# Altium footprint library Supply.PcbLib: 11 footprints
Each footprint in its own frame and in the unit in brackets; x right, y up, seen from the top. Pads: shape width x height; smd on the part's side, far side on the other; paste and mask are expansions set on the pad; w line width, h text height; cw(c..) or ccw(c..) is an arc to the next point about the centre after c.
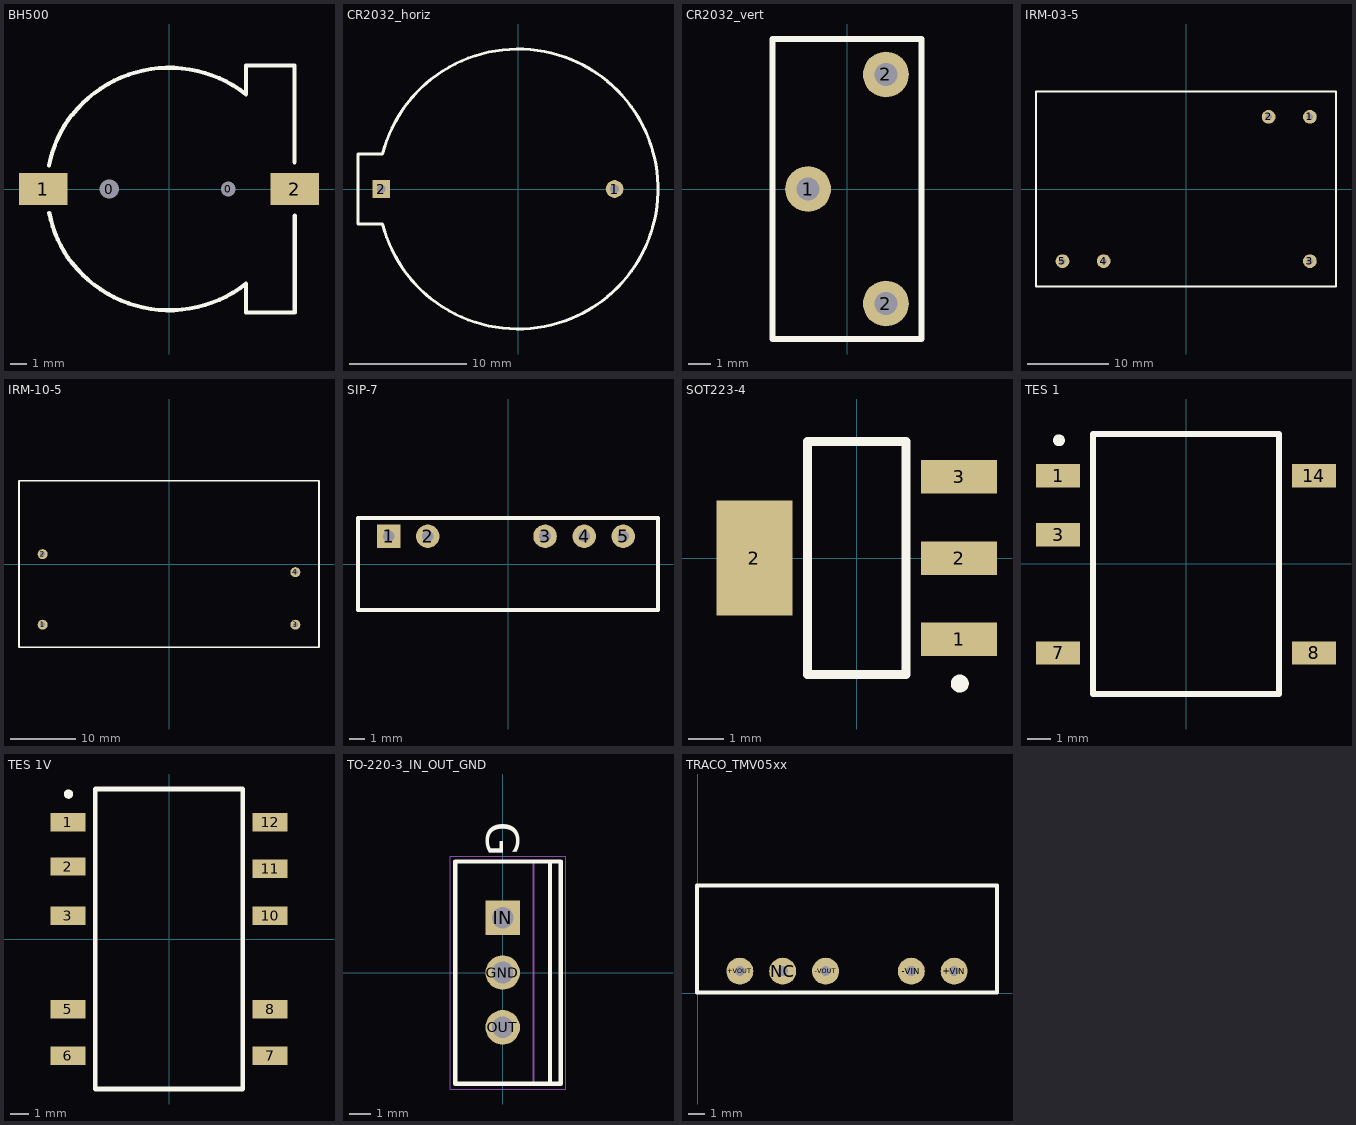
[diagram p0: the footprints below, top view; thin cyan lines are the x and y axes]

## BH500 [mm]
pads (4):
  round 1.1 hole 1.2: 0(-3.683,0)
  round 0.85 hole 0.9: 0(3.65,0)
  rect 3x2 smd: 1(-7.75,0) 2(7.75,0)
Top Overlay:
  lines w0.254: -7.398,1.453 cw(c0,0) -5.993,4.574 ; -7.385,-1.477 ccw(c0,0) -5.979,-4.58 ; -5.969,-4.572 ccw(c0.025,0.152) 4.75,-5.842 4.75,-7.62 7.753,-7.62 7.753,-1.651 ; -5.969,4.572 cw(c0.026,-0.152) 4.75,5.842 4.75,7.62 7.75,7.62 7.75,1.651

## CR2032_horiz [mil]
pads (2):
  round 60 hole 30: 1(325.98,0)
  rect 60x60 hole 30: 2(-461.42,0)
Top Overlay:
  lines w10: -540,-118.11 -540,118.11 -457.32,118.11 cw(c0,0) -457.32,-118.11 -540,-118.11

## CR2032_vert [mm]
pads (3):
  round 2 hole 1: 1(-1.7,0) 2(1.7,-5) 2(1.7,5)
Top Overlay:
  lines w0.254: -3.25,-6.55 3.25,-6.55 3.25,6.55 -3.25,6.55 -3.25,-6.55

## IRM-03-5 [mm]
pads (5):
  round 1.7 hole 0.8: 1(15.24,8.89) 2(10.16,8.89) 3(15.24,-8.89) 4(-10.16,-8.89) 5(-15.24,-8.89)
Top Overlay:
  lines w0.254: -18.5,-12 -18.5,12 18.458,12 18.458,-12 -18.5,-12

## IRM-10-5 [mil]
pads (4):
  round 60 hole 30: 1(-757.87,-364.17) 2(-757.87,59.06) 3(757.87,-364.17) 4(757.87,-49.21)
Top Overlay:
  lines w10: -899.61,-500 899.61,-500 899.61,500 -899.61,500 -899.61,-500

## SIP-7 [mil]
pads (5):
  rect 60x60 hole 30: 1(-305.12,70.87)
  round 60 hole 30: 2(-205.12,70.87) 3(94.88,70.87) 4(194.88,70.87) 5(294.88,70.87)
Top Overlay:
  lines w10: -383.86,-118.11 383.86,-118.11 383.86,118.11 -383.86,118.11 -383.86,-118.11

## SOT223-4 [mm]
pads (4):
  rect 2.15x0.95 smd: 1(2.9,-2.3) 2(2.9,0) 3(2.9,2.3)
  rect 2.15x3.25 smd: 2(-2.9,0)
Top Overlay:
  circle w0.254: c2.921,-3.556 r0.127
  lines w0.254: -1.4,-3.3 1.4,-3.3 1.4,3.3 -1.4,3.3 -1.4,-3.3 ; 2.921,-3.556 ccw(c2.857,-3.619) 2.921,-3.556

## TES 1 [mm]
pads (5):
  rect 1.9x1 smd: 1(-5.5,3.788) 3(-5.5,1.248) 7(-5.5,-3.832) 8(5.5,-3.832) 14(5.5,3.788)
Top Overlay:
  circle w0.254: c-5.461,5.312 r0.127
  lines w0.254: -4,-5.6 -4,5.588 4,5.588 4,-5.6 -4,-5.6

## TES 1V [mm]
pads (10):
  rect 1.9x1 smd: 1(-5.5,6.35) 2(-5.5,3.937) 3(-5.5,1.27) 5(-5.5,-3.81) 6(-5.5,-6.35) 7(5.5,-6.35) 8(5.5,-3.81) 10(5.5,1.27) 11(5.5,3.81) 12(5.5,6.35)
Top Overlay:
  circle w0.254: c-5.461,7.874 r0.127
  lines w0.254: -4,-8.15 -4,8.15 4,8.15 4,-8.15 -4,-8.15

## TO-220-3_IN_OUT_GND [mm] "FM, 3-Leads, Body 10.3x4.85mm, Pitch 2.54mm"
height 19.68
pads (3):
  round 1.6 hole 1: GND(0,0) OUT(0,-2.54)
  rect 1.6x1.6 hole 1: IN(0,2.54)
Top Overlay:
  lines w0.2: 2.195,-5.15 2.195,5.15 ; -2.205,-5.15 2.695,-5.15 2.695,5.15 -2.205,5.15 -2.205,-5.15
  text "G" at -0.762,6.985 h1.52
Mechanical 13:
  lines w0.1: 1.42,-5.15 1.42,5.15 ; -2.18,-5.15 -2.18,5.15 2.67,5.15 2.67,-5.15 -2.18,-5.15
Mechanical 15:
  lines w0.05: -2.43,-5.4 -2.43,5.4 2.92,5.4 2.92,-5.4 -2.43,-5.4
  lines w0.1: -0.5,0 0.5,0 ; 0,-0.5 0,0.5
3D body: height 2.8, standoff 0, extent -0.25,1.87 0.25,3.21
3D body: height 0, standoff -1.6, extent -0.25,2.16 0.25,2.92
3D body: height 2.8, standoff 0, extent -0.25,-0.67 0.25,0.67
3D body: height 0, standoff -1.6, extent -0.25,-0.38 0.25,0.38
3D body: height 2.8, standoff 0, extent -0.25,-3.21 0.25,-1.87
3D body: height 0, standoff -1.6, extent -0.25,-2.92 0.25,-2.16
3D body: height 13.48, standoff 2.8, extent -2.18,-5.15 2.67,5.15
3D body: height 14.96, standoff 13.48, extent 1.42,-4.975 2.67,4.975
3D body: height 15, standoff 14.96, extent 1.42,0.376 2.67,4.975
3D body: height 15, standoff 14.96, extent 1.42,-4.975 2.67,-0.376
3D body: height 18.81, standoff 18.77, extent 1.42,0.376 2.67,4.975
3D body: height 18.81, standoff 18.77, extent 1.42,-4.975 2.67,-0.376
3D body: height 15.11, standoff 14.99, extent 1.42,0.737 2.67,4.975
3D body: height 15.11, standoff 14.99, extent 1.42,-4.975 2.67,-0.737
3D body: height 18.77, standoff 18.66, extent 1.42,0.737 2.67,4.975
3D body: height 18.77, standoff 18.66, extent 1.42,-4.975 2.67,-0.737
3D body: height 15.28, standoff 15.1, extent 1.42,1.069 2.67,4.975
3D body: height 15.28, standoff 15.1, extent 1.42,-4.975 2.67,-1.069
3D body: height 18.66, standoff 18.48, extent 1.42,1.069 2.67,4.975
3D body: height 18.66, standoff 18.48, extent 1.42,-4.975 2.67,-1.069
3D body: height 15.52, standoff 15.28, extent 1.42,1.361 2.67,4.975
3D body: height 15.52, standoff 15.28, extent 1.42,-4.975 2.67,-1.361
3D body: height 18.49, standoff 18.24, extent 1.42,1.361 2.67,4.975
3D body: height 18.49, standoff 18.24, extent 1.42,-4.975 2.67,-1.361
3D body: height 15.82, standoff 15.52, extent 1.42,1.601 2.67,4.975
3D body: height 15.82, standoff 15.52, extent 1.42,-4.975 2.67,-1.601
3D body: height 18.25, standoff 17.95, extent 1.42,1.601 2.67,4.975
3D body: height 18.25, standoff 17.95, extent 1.42,-4.975 2.67,-1.601
3D body: height 16.15, standoff 15.81, extent 1.42,1.778 2.67,4.975
3D body: height 16.15, standoff 15.81, extent 1.42,-4.975 2.67,-1.778
3D body: height 17.95, standoff 17.62, extent 1.42,1.778 2.67,4.975
3D body: height 17.95, standoff 17.62, extent 1.42,-4.975 2.67,-1.778
3D body: height 16.51, standoff 16.14, extent 1.42,1.888 2.67,4.975
3D body: height 16.51, standoff 16.14, extent 1.42,-4.975 2.67,-1.888
3D body: height 17.62, standoff 17.26, extent 1.42,1.888 2.67,4.975
3D body: height 17.62, standoff 17.26, extent 1.42,-4.975 2.67,-1.888
3D body: height 16.88, standoff 16.5, extent 1.42,1.925 2.67,4.975
3D body: height 16.88, standoff 16.5, extent 1.42,-4.975 2.67,-1.925
3D body: height 17.26, standoff 16.88, extent 1.42,1.925 2.67,4.975
3D body: height 17.26, standoff 16.88, extent 1.42,-4.975 2.67,-1.925
3D body: height 19.68, standoff 18.81, extent 1.42,-4.975 2.67,4.975

## TRACO_TMV05xx [mm]
pads (5):
  round 1.6 hole 0.6: +VIN(15.2,1.3) +VOUT(2.5,1.3) -VIN(12.66,1.3) -VOUT(7.58,1.3) NC(5.04,1.3)
Top Overlay:
  lines w0.254: -0.04,0.03 -0.04,6.38 17.74,6.38 17.74,0.03 -0.04,0.03
3D body: height 10, standoff 0, extent -0.167,-0.097 17.867,6.507